# EAGLE library part F91W (library f-91w)
Casio® F-91W main PCB Main PCB of the classic Casio® F-91W wristwatch. Requires ENIG surface finish and 0.6 mm PCB thickness.
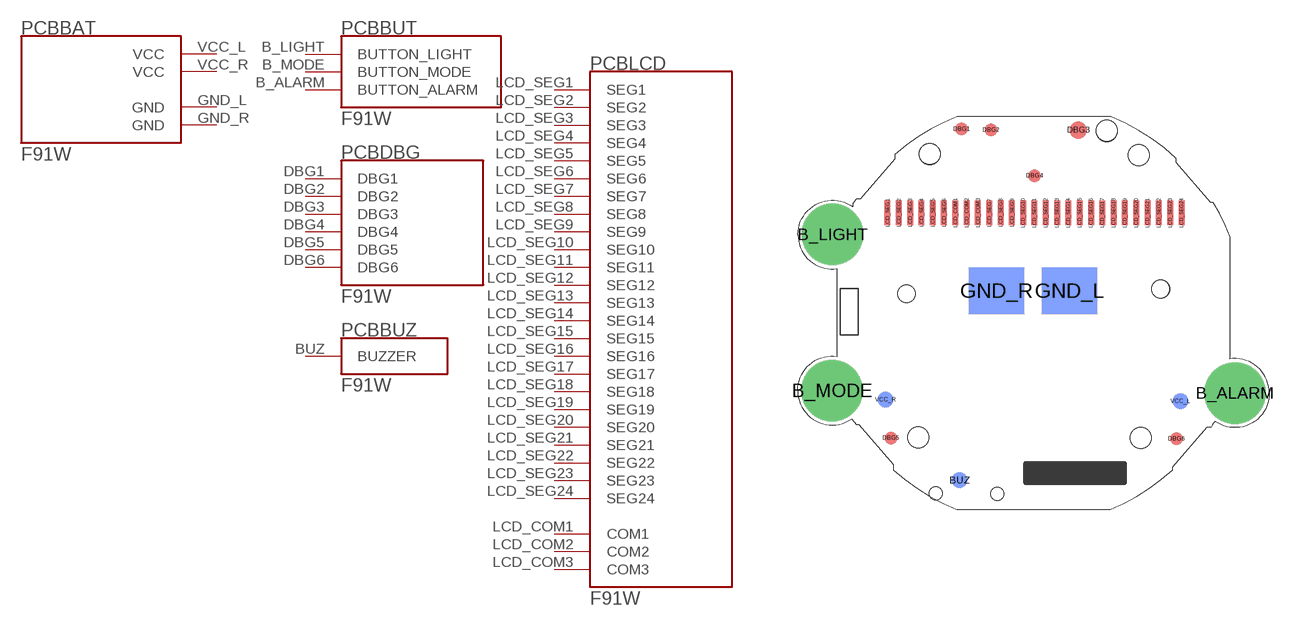
[diagram p0: symbol with the pads of F91W; footprint F91W]

Designator prefix PCB; gates BAT=F91W_BAT BUT=F91W_BUTTONS BUZ=F91W_BUZZER DBG=F91W_DBG LCD=F91W_LCD

## F91W  [F91W]
B_ALARM  BUT:BUTTON_ALARM  out
B_LIGHT  BUT:BUTTON_LIGHT  out
B_MODE  BUT:BUTTON_MODE  out
BUZ  BUZ:BUZZER  pas
DBG1  DBG:DBG1
DBG2  DBG:DBG2
DBG3  DBG:DBG3
DBG4  DBG:DBG4
DBG5  DBG:DBG5
DBG6  DBG:DBG6
GND_L  BAT:GND  sup
GND_R  BAT:GND  sup
LCD_COM1  LCD:COM1  in
LCD_COM2  LCD:COM2  in
LCD_COM3  LCD:COM3  in
LCD_SEG1  LCD:SEG1  in
LCD_SEG2  LCD:SEG2  in
LCD_SEG3  LCD:SEG3  in
LCD_SEG4  LCD:SEG4  in
LCD_SEG5  LCD:SEG5  in
LCD_SEG6  LCD:SEG6  in
LCD_SEG7  LCD:SEG7  in
LCD_SEG8  LCD:SEG8  in
LCD_SEG9  LCD:SEG9  in
LCD_SEG10  LCD:SEG10  in
LCD_SEG11  LCD:SEG11  in
LCD_SEG12  LCD:SEG12  in
LCD_SEG13  LCD:SEG13  in
LCD_SEG14  LCD:SEG14  in
LCD_SEG15  LCD:SEG15  in
LCD_SEG16  LCD:SEG16  in
LCD_SEG17  LCD:SEG17  in
LCD_SEG18  LCD:SEG18  in
LCD_SEG19  LCD:SEG19  in
LCD_SEG20  LCD:SEG20  in
LCD_SEG21  LCD:SEG21  in
LCD_SEG22  LCD:SEG22  in
LCD_SEG23  LCD:SEG23  in
LCD_SEG24  LCD:SEG24  in
VCC_L  BAT:VCC  sup
VCC_R  BAT:VCC  sup

## Footprint F91W (pad centres in mm)
drill 2.8: B_ALARM 24.68,7.21; B_LIGHT -0.28,17.06; B_MODE -0.31,7.37
smd 1 x 1 bottom: BUZ 7.6,1.8; VCC_L 21.3,6.7; VCC_R 3,6.8
smd 0.8 x 0.8: DBG1 7.73,23.6; DBG2 9.55,23.55; DBG4 12.25,20.71; DBG5 3.34,4.42; DBG6 21.06,4.37
smd 1.1 x 1.1: DBG3 14.97,23.54
smd 3.43 x 2.9 bottom: GND_L 14.42,13.56; GND_R 9.89,13.56
smd 0.373 x 1.509: LCD_COM1 7.332,18.4; LCD_COM2 8.034,18.4; LCD_COM3 8.736,18.4; LCD_SEG1 3.12,18.4; LCD_SEG2 3.822,18.4; LCD_SEG3 4.524,18.4; LCD_SEG4 5.226,18.4; LCD_SEG5 5.928,18.4; LCD_SEG6 6.63,18.4; LCD_SEG7 9.438,18.4; LCD_SEG8 10.14,18.4; LCD_SEG9 10.842,18.4; LCD_SEG10 11.544,18.4; LCD_SEG11 12.246,18.4; LCD_SEG12 12.948,18.4; LCD_SEG13 13.65,18.4; LCD_SEG14 14.352,18.4; LCD_SEG15 15.054,18.4; LCD_SEG16 15.756,18.4; LCD_SEG17 16.458,18.4; LCD_SEG18 17.16,18.4; LCD_SEG19 17.862,18.4; LCD_SEG20 18.564,18.4; LCD_SEG21 19.266,18.4; LCD_SEG22 19.968,18.4; LCD_SEG23 20.67,18.4; LCD_SEG24 21.372,18.4
hole 1.3 at 5.74,22.06
hole 1.3 at 18.71,21.99
hole 1.3 at 5.045,4.465
hole 1.3 at 18.845,4.43
hole 1.3 at 16.735,23.495
hole 1.1 at 4.3,13.38
hole 1.1 at 20.075,13.67
hole 0.81 at 6.125,0.99
hole 0.81 at 9.94,0.94